# Altium schematic symbol library DMI.SchLib: 9 symbols
Pins are listed as number, name and electrical type; pins without a type are passive.

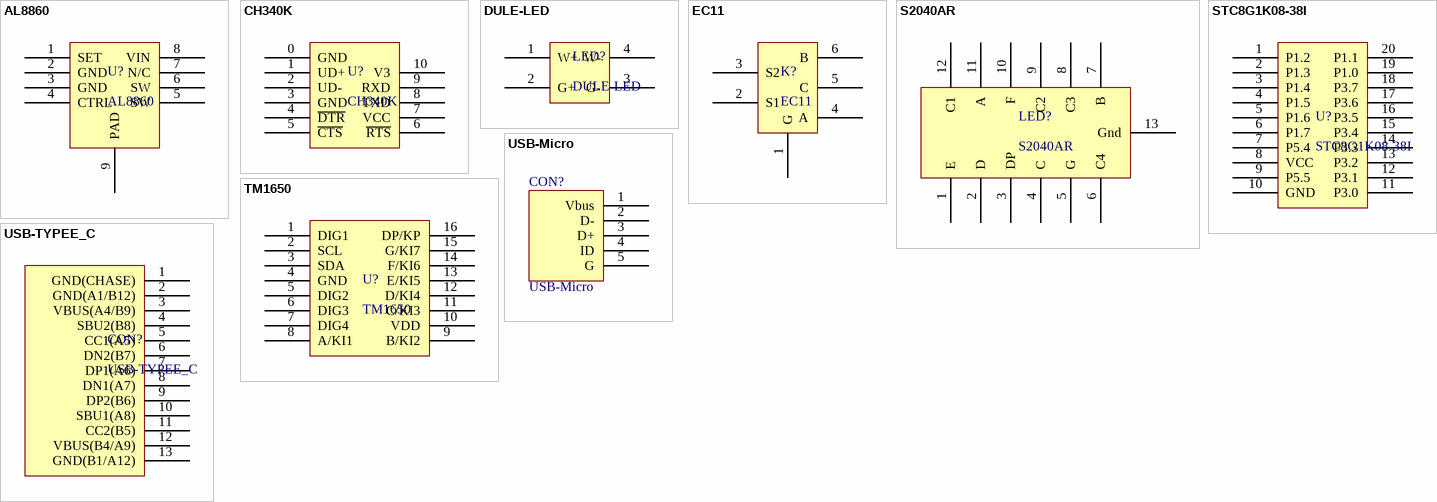
[diagram p0: symbols AL8860 to USB-TYPEE_C]

## AL8860
designator U?
footprint TSOP65P490_HS-8N (TSOP, 8-Leads, Body 3x3mm, Pitch 0.65mm, Exposed Pad, IPC Medium Density)
pins: 1 SET, 2 GND, 3 GND, 4 CTRL, 5 SW, 6 SW, 7 N/C, 8 VIN, 9 PAD

## CH340K
designator U?
footprint ESOP100-10 (10-Pin Small Outline Package 1.00 mm Pitch and Pad)
pins: 0 GND, 1 UD+, 2 UD-, 3 GND, 4 ~{DTR}, 5 ~{CTS}, 6 ~{RTS}, 7 VCC, 8 TXD, 9 RXD, 10 V3

## DULE-LED
designator LED?
footprint DULE-LED-3W
pins: 1 W+, 2 G+, 3 G-, 4 W-

## EC11
designator K?
footprint EC11
pins: 1 G, 2 S1, 3 S2, 4 A, 5 C, 6 B

## S2040AR
designator LED?
footprint S2040AR
pins: 1 E, 2 D, 3 DP, 4 C, 5 G, 6 C4, 7 B, 8 C3, 9 C2, 10 F, 11 A, 12 C1, 13 Gnd

## STC8G1K08-38I
designator U?
footprint TSOP65P640-20BL (TSOP, 20-Leads, Body 6.5x4.4mm, Pitch 0.65mm, IPC High Density)
pins: 1 P1.2, 2 P1.3, 3 P1.4, 4 P1.5, 5 P1.6, 6 P1.7, 7 P5.4, 8 VCC, 9 P5.5, 10 GND, 11 P3.0, 12 P3.1, 13 P3.2, 14 P3.3, 15 P3.4, 16 P3.5, 17 P3.6, 18 P3.7, 19 P1.0, 20 P1.1

## TM1650
designator U?
footprint SOP127P762-16L (16-Pin Small Outline Package 1.27 mm Pitch)
pins: 1 DIG1, 2 SCL, 3 SDA, 4 GND, 5 DIG2, 6 DIG3, 7 DIG4, 8 A/KI1, 9 B/KI2, 10 VDD, 11 C/KI3, 12 D/KI4, 13 E/KI5, 14 F/KI6, 15 G/KI7, 16 DP/KP

## USB-Micro
designator CON?
footprint USB-micro_B (micro型USB ，5.7*7.8*2.5mm)
pins: 1 Vbus, 2 D-, 3 D+, 4 ID, 5 G

## USB-TYPEE_C
designator CON?
footprint USB-TYPE_C
pins: 1 GND(CHASE), 2 GND(A1/B12), 3 VBUS(A4/B9), 4 SBU2(B8), 5 CC1(A5), 6 DN2(B7), 7 DP1(A6), 8 DN1(A7), 9 DP2(B6), 10 SBU1(A8), 11 CC2(B5), 12 VBUS(B4/A9), 13 GND(B1/A12)